# EAGLE library part ESP32-38-32-R (library JLB6_Processor)
ESP32 compatible 38p Espressif et 32p uPesy
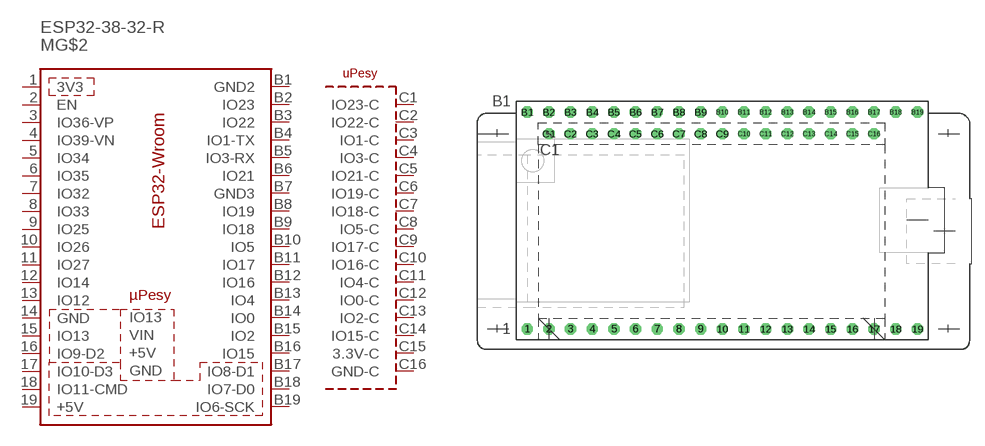
[diagram p36: symbol with the pads of ESP32-38P-32P; footprint ESP32-38P-32P]

Designator prefix M; gates G$1=ESP32-EXT-16R G$2=ESP32-WROMM-32UE-UPESY

## ESP32-38-32-R  [ESP32-38P-32P]
1  G$2:3V3  pwr
2  G$2:EN  in
3  G$2:IO36-VP
4  G$2:IO39-VN
5  G$2:IO34
6  G$2:IO35
7  G$2:IO32
8  G$2:IO33
9  G$2:IO25
10  G$2:IO26
11  G$2:IO27
12  G$2:IO14
13  G$2:IO12
14  G$2:GND  pwr
15  G$2:IO13
16  G$2:IO9-D2
17  G$2:IO10-D3  nc
18  G$2:IO11-CMD  nc
19  G$2:+5V  pwr
B1  G$2:GND2  pwr
B2  G$2:IO23
B3  G$2:IO22
B4  G$2:IO1-TX
B5  G$2:IO3-RX
B6  G$2:IO21
B7  G$2:GND3  pwr
B8  G$2:IO19
B9  G$2:IO18
B10  G$2:IO5
B11  G$2:IO17
B12  G$2:IO16
B13  G$2:IO4
B14  G$2:IO0
B15  G$2:IO2
B16  G$2:IO15
B17  G$2:IO8-D1  nc
B18  G$2:IO7-D0  nc
B19  G$2:IO6-SCK  nc
C1  G$1:IO23-C
C2  G$1:IO22-C
C3  G$1:IO1-C
C4  G$1:IO3-C
C5  G$1:IO21-C
C6  G$1:IO19-C
C7  G$1:IO18-C
C8  G$1:IO5-C
C9  G$1:IO17-C
C10  G$1:IO16-C
C11  G$1:IO4-C
C12  G$1:IO0-C
C13  G$1:IO2-C
C14  G$1:IO15-C
C15  G$1:3.3V-C  pwr
C16  G$1:GND-C  nc

## Footprint ESP32-38P-32P (pad centres in mm)
Mixte ESP32WROOM 38p et µpesy 32p
drill 0.813 octagon: 1 0,0; 2 2.54,0; 3 5.08,0; 4 7.62,0; 5 10.16,0; 6 12.7,0; 7 15.24,0; 8 17.78,0; 9 20.32,0; 10 22.86,0; 11 25.4,0; 12 27.94,0; 13 30.48,0; 14 33.02,0; 15 35.56,0; 16 38.1,0; 17 40.64,0; 18 43.18,0; 19 45.72,0; B1 0,25.4; B2 2.54,25.4; B3 5.08,25.4; B4 7.62,25.4; B5 10.16,25.4; B6 12.7,25.4; B7 15.24,25.4; B8 17.78,25.4; B9 20.32,25.4; B10 22.86,25.4; B11 25.4,25.4; B12 27.94,25.4; B13 30.48,25.4; B14 33.02,25.4; B15 35.56,25.4; B16 38.1,25.4; B17 40.64,25.4; B18 43.18,25.4; B19 45.72,25.4; C1 2.54,22.86; C2 5.08,22.86; C3 7.62,22.86; C4 10.16,22.86; C5 12.7,22.86; C6 15.24,22.86; C7 17.78,22.86; C8 20.32,22.86; C9 22.86,22.86; C10 25.4,22.86; C11 27.94,22.86; C12 30.48,22.86; C13 33.02,22.86; C14 35.56,22.86; C15 38.1,22.86; C16 40.64,22.86